# Altium schematic symbol library Arduino_StepperPrototype.SchLib: 7 symbols
Pins are listed as number, name and electrical type; pins without a type are passive.

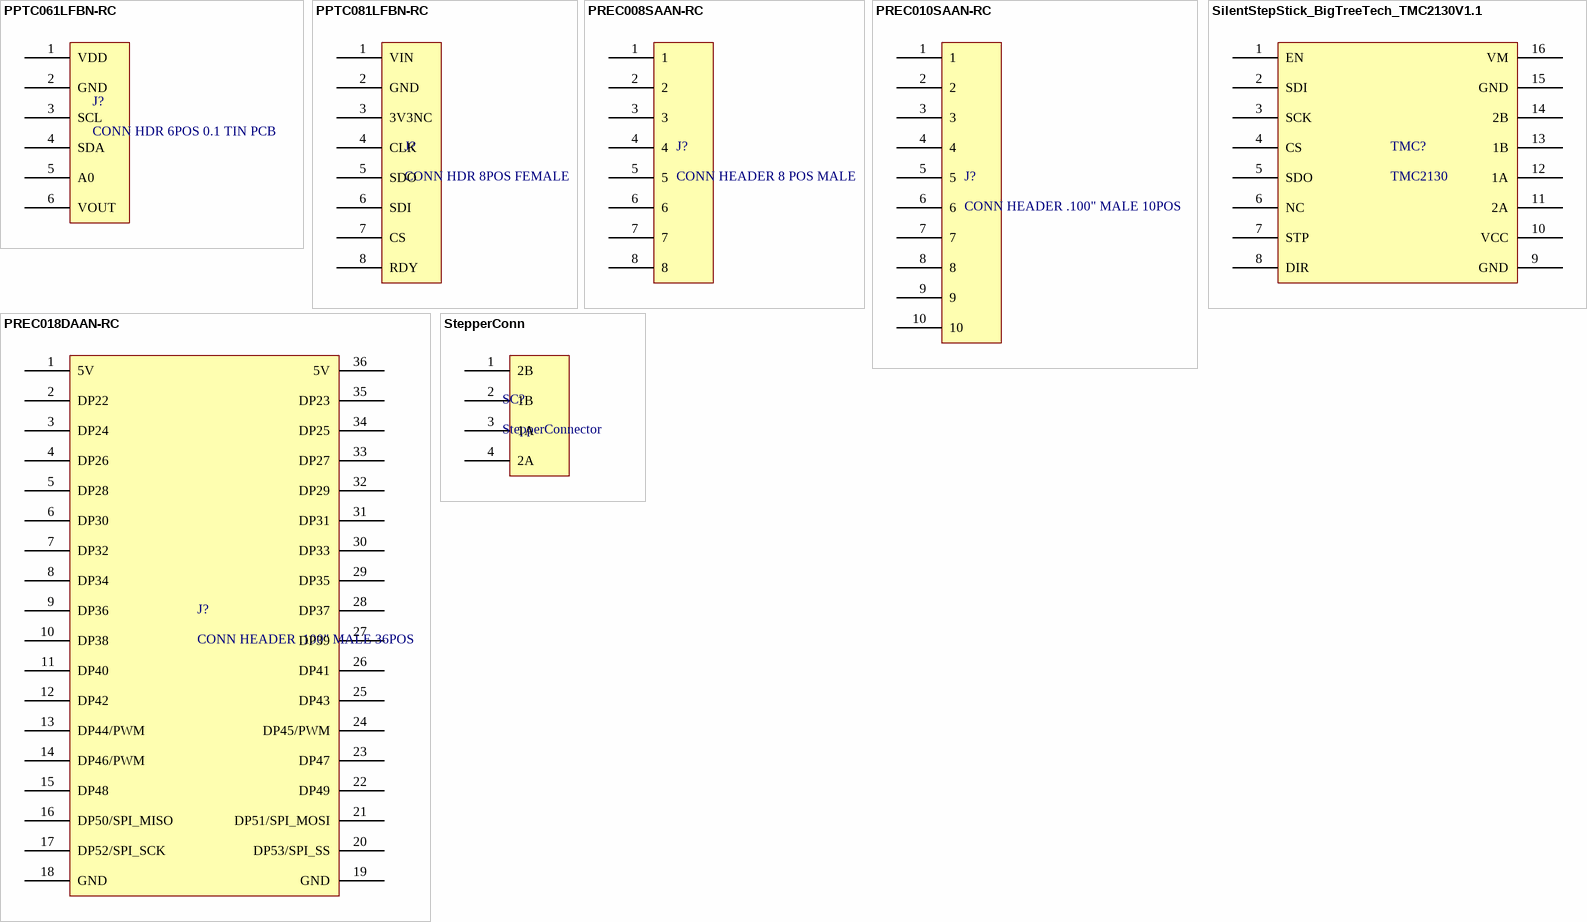
[diagram p0: symbols PPTC061LFBN-RC to StepperConn]

## PPTC061LFBN-RC
designator J?, comment CONN HDR 6POS 0.1 TIN PCB
Manufacturer: Sullins; Manufacturer Part Number: PPTC061LFBN-RC; Catalog Drawings: PPTC,PPPC Series Straight / PPTC,PPPC Series Footprint; Connector Type: Header; Number of Positions: 6; Number of Positions Loaded: All; Pitch: 0.100" (2.54mm); Dynamic Catalog: PP Series; Mating Products: S1143E-06-ND / - CONN HEADER 6POS .100 RT/A SMD / S1123E-06-ND / - CONN HEADER 6POS .100 RT/A SMD / S1133E-06-ND / - CONN HEADER 6POS .100 RT/A SMD / S1113E-06-ND / - CONN HEADER 6POS .100 RT/A SMD / S1043E-06-ND / - CONN HEADER 6POS .100 SINGLE SMD / S1023E-06-ND / - CONN HEADER 6POS .100 SINGLE SMD / S1033E-06-ND / - CONN HEADER 6POS .100 SINGLE SMD / S1013E-06-ND / - CONN HEADER 6POS .100 SINGLE SMD / S1321E-06-ND / - CONN HEADER .100 SINGL R/A 6POS / S1311E-06-ND / - CONN HEADER .100 SINGL R/A 6POS / More...; Other Names: S7004; Supplier 1: Digi-Key; Stock 1: 12863; Pricing 1: 1=0.52, 10=0.483, 100=0.3705, 500=0.3222, 1000=0.2658, 5000=0.2336, 10000=0.2327 (USD); Standard Package: 1,000; Category: Connectors, Interconnects; Family: Rectangular Connectors - Headers, Receptacles, Female Sockets; Contact Type: Female Socket; Number of Rows: 1; Mounting Type: Through Hole; Termination: Solder; Contact Finish: Tin; Color: Black; Packaging: Bulk; Supplier Part Number 1: S7004-ND
footprint DIP6_FEMALE
pins: 1 VDD, 2 GND, 3 SCL, 4 SDA, 5 A0, 6 VOUT

## PPTC081LFBN-RC
designator J?, comment CONN HDR 8POS FEMALE
Manufacturer: Sullins; Manufacturer Part Number: PPTC081LFBN-RC; Catalog Drawings: PPTC,PPPC Series Straight / PPTC,PPPC Series Footprint; Connector Type: Header; Number of Positions: 8; Number of Positions Loaded: All; Pitch: 0.100" (2.54mm); Dynamic Catalog: PP Series; Mating Products: S1143E-08-ND / - CONN HEADER 8POS .100 RT/A SMD / S1123E-08-ND / - CONN HEADER 8POS .100 RT/A SMD / S1133E-08-ND / - CONN HEADER 8POS .100 RT/A SMD / S1113E-08-ND / - CONN HEADER 8POS .100 RT/A SMD / S1043E-08-ND / - CONN HEADER 8POS .100 SINGLE SMD / S1023E-08-ND / - CONN HEADER 8POS .100 SINGLE SMD / S1033E-08-ND / - CONN HEADER 8POS .100 SINGLE SMD / S1013E-08-ND / - CONN HEADER 8POS .100 SINGLE SMD / S1321E-08-ND / - CONN HEADER .100 SINGL R/A 8POS / S1311E-08-ND / - CONN HEADER .100 SINGL R/A 8POS / More...; Other Names: S7006; Supplier 1: Digi-Key; Stock 1: 26935; Pricing 1: 1=0.65, 10=0.608, 400=0.4253, 800=0.3645, 1200=0.3341, 5200=0.2936, 10000=0.2925 (USD); Standard Package: 1,000; Category: Connectors, Interconnects; Family: Rectangular Connectors - Headers, Receptacles, Female Sockets; Contact Type: Female Socket; Number of Rows: 1; Mounting Type: Through Hole; Termination: Solder; Contact Finish: Tin; Color: Black; Packaging: Bulk; Supplier Part Number 1: S7006-ND
footprint DIP8_FEMALE
pins: 1 VIN, 2 GND, 3 3V3NC, 4 CLK, 5 SDO, 6 SDI, 7 CS, 8 RDY

## PREC008SAAN-RC
designator J?, comment CONN HEADER 8 POS MALE
Manufacturer: Sullins; Manufacturer Part Number: PREC008SAAN-RC; Connector Type: Header, Unshrouded, Breakaway; Number of Positions: 8; Number of Positions Loaded: All; Pitch: 0.100" (2.54mm); Online Catalog: 0.100" (2.54mm) Pitch Connector Headers; Other Names: S9499E-08  S9499E-08-ND; Supplier 1: Digi-Key; Stock 1: 3273; Pricing 1: 1=0.19, 10=0.178, 25=0.152, 50=0.133, 100=0.1236, 250=0.1093, 500=0.1045 (USD); Standard Package: 1; Category: Connectors, Interconnects; Family: Rectangular Connectors - Headers, Male Pins; Series: -; Packaging: Bulk; Contact Type: Male Pin; Number of Rows: 1; Row Spacing: -; Contact Mating Length: 0.230" (5.84mm); Mounting Type: Through Hole; Termination: Solder; Fastening Type: -; Features: -; Contact Finish: Tin; Contact Finish Thickness: -; Color: Black; ComponentLink1URL: https://media.digikey.com/PDF/Data%20Sheets/Sullins%20PDFs/z%20RzCzzzSzzN-RC,%20ST,11635-B.pdf?src-supplier=Digi-Key; ComponentLink1Description: https://media.digikey.com/PDF/Data%20Sheets/Sullins%20PDFs/z%20RzCzzzSzzN-RC,%20ST,11635-B.pdf?src-supplier=Digi-Key; Supplier Part Number 1: S1012EC-08-ND
footprint DIP8_MALE
pins: 1, 2, 3, 4, 5, 6, 7, 8

## PREC010SAAN-RC
designator J?, comment CONN HEADER .100" MALE 10POS
CONN HEADER .100" SNGL STR 10POS; Manufacturer: Sullins; Manufacturer Part Number: PREC010SAAN-RC; Connector Type: Header, Unshrouded, Breakaway; Number of Positions: 10; Number of Positions Loaded: All; Pitch: 0.100" (2.54mm); Online Catalog: 0.100" (2.54mm) Pitch Connector Headers; Other Names: S9499E-10  S9499E-10-ND; Supplier 1: Digi-Key; Stock 1: 2265; Pricing 1: 1=0.24, 10=0.223, 25=0.19, 50=0.1664, 100=0.1544, 250=0.1366, 500=0.1307 (USD); Standard Package: 1; Category: Connectors, Interconnects; Family: Rectangular Connectors - Headers, Male Pins; Series: -; Packaging: Bulk; Contact Type: Male Pin; Number of Rows: 1; Row Spacing: -; Contact Mating Length: 0.230" (5.84mm); Mounting Type: Through Hole; Termination: Solder; Fastening Type: -; Features: -; Contact Finish: Tin; Contact Finish Thickness: -; Color: Black; ComponentLink1URL: https://media.digikey.com/PDF/Data%20Sheets/Sullins%20PDFs/z%20RzCzzzSzzN-RC,%20ST,11635-B.pdf?src-supplier=Digi-Key; ComponentLink1Description: https://media.digikey.com/PDF/Data%20Sheets/Sullins%20PDFs/z%20RzCzzzSzzN-RC,%20ST,11635-B.pdf?src-supplier=Digi-Key; Supplier Part Number 1: S1012EC-10-ND
footprint DIP10_MALE
pins: 1, 2, 3, 4, 5, 6, 7, 8, 9, 10

## PREC018DAAN-RC
designator J?, comment CONN HEADER .100" MALE 36POS
CONN HEADER .100" DUAL STR 36POS; Manufacturer: Sullins; Manufacturer Part Number: PREC018DAAN-RC; Connector Type: Header, Unshrouded, Breakaway; Number of Positions: 36; Number of Positions Loaded: All; Pitch: 0.100" (2.54mm); Online Catalog: 0.100" (2.54mm) Pitch Connector Headers; Other Names: S9500E-18  S9500E-18-ND; Supplier 1: Digi-Key; Stock 1: 154; Pricing 1: 1=0.69, 10=0.643, 25=0.5788, 50=0.5146, 100=0.4931, 250=0.4502, 500=0.4288 (USD); Standard Package: 1; Category: Connectors, Interconnects; Family: Rectangular Connectors - Headers, Male Pins; Series: -; Packaging: Bulk; Contact Type: Male Pin; Number of Rows: 2; Row Spacing: 0.100" (2.54mm); Contact Mating Length: 0.230" (5.84mm); Mounting Type: Through Hole; Termination: Solder; Fastening Type: -; Features: -; Contact Finish: Tin; Contact Finish Thickness: -; Color: Black; ComponentLink1URL: https://drawings-pdf.s3.amazonaws.com/11636.pdf?src-supplier=Digi-Key; ComponentLink1Description: https://drawings-pdf.s3.amazonaws.com/11636.pdf?src-supplier=Digi-Key; Supplier Part Number 1: S2012EC-18-ND
footprint DIP36_MALE
pins: 1 5V, 2 DP22, 3 DP24, 4 DP26, 5 DP28, 6 DP30, 7 DP32, 8 DP34, 9 DP36, 10 DP38, 11 DP40, 12 DP42, 13 DP44/PWM, 14 DP46/PWM, 15 DP48, 16 DP50/SPI_MISO, 17 DP52/SPI_SCK, 18 GND, 19 GND, 20 DP53/SPI_SS, 21 DP51/SPI_MOSI, 22 DP49, 23 DP47, 24 DP45/PWM, 25 DP43, 26 DP41, 27 DP39, 28 DP37, 29 DP35, 30 DP33, 31 DP31, 32 DP29, 33 DP27, 34 DP25, 35 DP23, 36 5V

## SilentStepStick_BigTreeTech_TMC2130V1.1
designator TMC?, comment TMC2130
Knockoff SilentStepStick
footprint DIP16_Stepper
pins: 1 EN, 2 SDI, 3 SCK, 4 CS, 5 SDO, 6 NC, 7 STP, 8 DIR, 9 GND, 10 VCC, 11 2A, 12 1A, 13 1B, 14 2B, 15 GND, 16 VM

## StepperConn
designator SC?, comment StepperConnector
footprint DIP4
pins: 1 2B, 2 1B, 3 1A, 4 2A